# EAGLE library part SKYA21003 (library SKYA21003)
RF Switch ICs SPDT 1- 6 GHz SOI in a 2x2 QFN SWITCH Source: Datasheet <https://www.skyworksinc.com/-/media/SkyWorks/Documents/Products/2201-2300/SKYA21003_202938I.pdf>
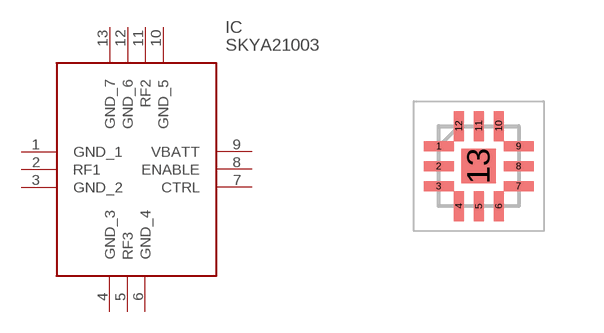
[diagram p0: symbol with the pads of QFN50P200X200X65-13N; footprint QFN50P200X200X65-13N]

Designator prefix IC

## SKYA21003 (Arrow_Part_Number: SKYA21003; Arrow_Price-Stock: https://www.arrow.com/en/products/skya21003/skyworks-solutions?utm_currency=USD&region=nac; Description: RF Switch ICs SPDT 1- 6 GHz SOI in a 2x2 QFN SWITCH; Height: 0.65mm; Manufacturer_Name: Skyworks; Manufacturer_Part_Number: SKYA21003; Mouser_Part_Number: 873-SKYA21003; Mouser_Price-Stock: https://www.mouser.co.uk/ProductDetail/Skyworks-Solutions-Inc/SKYA21003?qs=4FzvMsMEDjYZsTKpRNiAFA%3D%3D)  [QFN50P200X200X65-13N]
1  GND_1
2  RF1
3  GND_2
4  GND_3
5  RF3
6  GND_4
7  CTRL
8  ENABLE
9  VBATT
10  GND_5
11  RF2
12  GND_6
13  GND_7

## Footprint QFN50P200X200X65-13N (pad centres in mm)
12-Lead QFN
smd 0.75 x 0.25: 1 -1,0.5; 2 -1,0; 3 -1,-0.5; 7 1,-0.5; 8 1,0; 9 1,0.5
smd 0.25 x 0.75: 4 -0.5,-1; 5 0,-1; 6 0.5,-1; 10 0.5,1; 11 0,1; 12 -0.5,1
smd 0.86 x 0.86: 13 0,0